# Altium footprint library SBH11-PBPC-D10-ST-BK.PcbLib: 1 footprints
Each footprint in its own frame and in the unit in brackets; x right, y up, seen from the top. Pads: shape width x height; smd on the part's side, far side on the other; paste and mask are expansions set on the pad; w line width, h text height; cw(c..) or ccw(c..) is an arc to the next point about the centre after c.
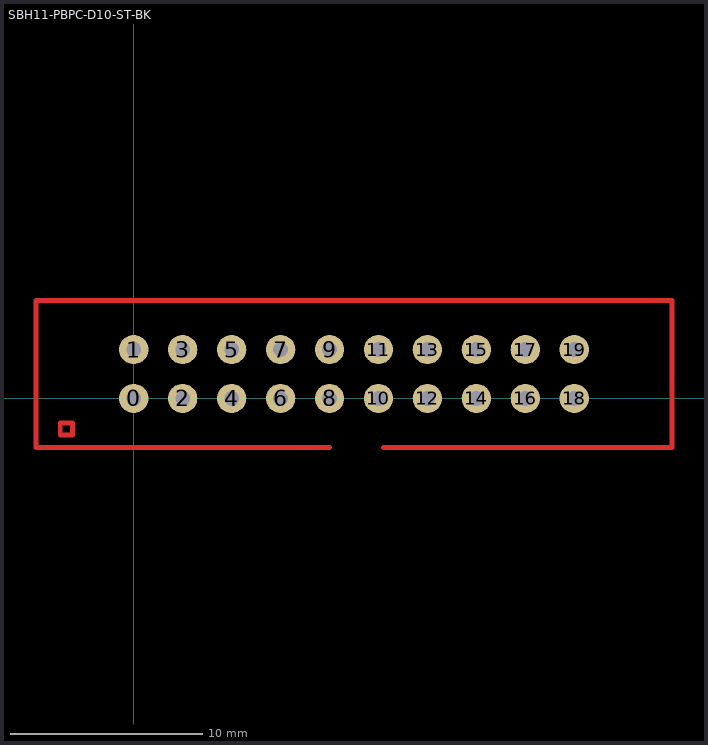
[diagram p0: the footprint, top view; thin cyan lines are the x and y axes]

## SBH11-PBPC-D10-ST-BK [mil] "SBH11-PBPC-D10-ST-BK"
pads (20):
  round 60 hole 30: 0(0,0) 1(0,100) 2(100,0) 3(100,100) 4(200,0) 5(200,100) 6(300,0) 7(300,100) 8(400,0) 9(400,100) 10(500,0) 11(500,100) 12(600,0) 13(600,100) 14(700,0) 15(700,100) 16(800,0) 17(800,100) 18(900,0) 19(900,100)
Top Layer:
  lines w10: 400,-100 -200,-100 -200,200 1100,200 1100,-100 510,-100 ; -150,-75 -150,-50 -125,-50 -125,-75 -150,-75